# Altium integrated library WD Memory FIFO Register.IntLib: 4 symbols
Pins are listed as number, name and electrical type; pins without a type are passive.

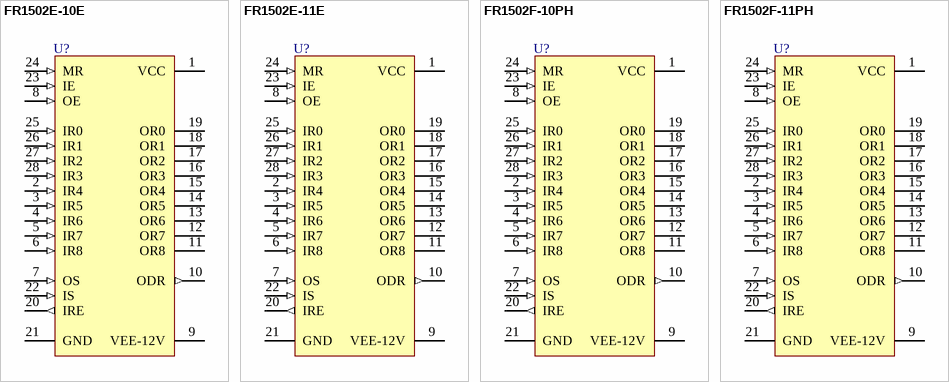
[diagram p0: symbols FR1502E-10E to FR1502F-11PH]

## FR1502E-10E
designator U?
First In/First Out Buffer Register; PackageDocument: 1984; Published: 8-Jun-2000; LatestRevisionDate: 4-Mar-2005; LatestRevisionNote: Stylized 3D Model Added.; DatasheetDocument: 1984; PackageReference: E28; Publisher: Altium Limited; ComponentLink1Description: Manufacturer Link; ComponentLink1URL: http://www.wdc.com/
footprint E28 (DIP; 28 Leads; Row Spacing 15.24 mm; Pitch 2.54 mm)
3D model E28 (DIP; 28 Leads; Row Spacing 15.24 mm; Pitch 2.54 mm)
pins: 1 VCC (power), 2 IR4 (in), 3 IR5 (in), 4 IR6 (in), 5 IR7 (in), 6 IR8 (in), 7 OS (in), 8 OE (in), 9 VEE-12V (power), 10 ODR (out), 11 OR8 (hiz), 12 OR7 (hiz), 13 OR6 (hiz), 14 OR5 (hiz), 15 OR4 (hiz), 16 OR3 (hiz), 17 OR2 (hiz), 18 OR1 (hiz), 19 OR0 (hiz), 20 IRE (out), 21 GND (power), 22 IS (in), 23 IE (in), 24 MR (in), 25 IR0 (in), 26 IR1 (in), 27 IR2 (in), 28 IR3 (in)

## FR1502E-11E
designator U?
First In/First Out Buffer Register; PackageDocument: 1984; Published: 8-Jun-2000; LatestRevisionDate: 4-Mar-2005; LatestRevisionNote: Stylized 3D Model Added.; DatasheetDocument: 1984; PackageReference: E28; Publisher: Altium Limited; ComponentLink1Description: Manufacturer Link; ComponentLink1URL: http://www.wdc.com/
footprint E28 (DIP; 28 Leads; Row Spacing 15.24 mm; Pitch 2.54 mm)
3D model E28 (DIP; 28 Leads; Row Spacing 15.24 mm; Pitch 2.54 mm)
pins: 1 VCC (power), 2 IR4 (in), 3 IR5 (in), 4 IR6 (in), 5 IR7 (in), 6 IR8 (in), 7 OS (in), 8 OE (in), 9 VEE-12V (power), 10 ODR (out), 11 OR8 (hiz), 12 OR7 (hiz), 13 OR6 (hiz), 14 OR5 (hiz), 15 OR4 (hiz), 16 OR3 (hiz), 17 OR2 (hiz), 18 OR1 (hiz), 19 OR0 (hiz), 20 IRE (out), 21 GND (power), 22 IS (in), 23 IE (in), 24 MR (in), 25 IR0 (in), 26 IR1 (in), 27 IR2 (in), 28 IR3 (in)

## FR1502F-10PH
designator U?
First In/First Out Buffer Register; PackageDocument: 1984; Published: 8-Jun-2000; LatestRevisionDate: 4-Mar-2005; LatestRevisionNote: Stylized 3D Model Added.; DatasheetDocument: 1984; PackageReference: PH28; Publisher: Altium Limited; ComponentLink1Description: Manufacturer Link; ComponentLink1URL: http://www.wdc.com/
footprint PH28 (DIP; 28 Leads; Row Spacing 15.24 mm; Pitch 2.54 mm)
3D model PH28 (DIP; 28 Leads; Row Spacing 15.24 mm; Pitch 2.54 mm)
pins: 1 VCC (power), 2 IR4 (in), 3 IR5 (in), 4 IR6 (in), 5 IR7 (in), 6 IR8 (in), 7 OS (in), 8 OE (in), 9 VEE-12V (power), 10 ODR (out), 11 OR8 (hiz), 12 OR7 (hiz), 13 OR6 (hiz), 14 OR5 (hiz), 15 OR4 (hiz), 16 OR3 (hiz), 17 OR2 (hiz), 18 OR1 (hiz), 19 OR0 (hiz), 20 IRE (out), 21 GND (power), 22 IS (in), 23 IE (in), 24 MR (in), 25 IR0 (in), 26 IR1 (in), 27 IR2 (in), 28 IR3 (in)

## FR1502F-11PH
designator U?
First In/First Out Buffer Register; PackageDocument: 1984; Published: 8-Jun-2000; LatestRevisionDate: 4-Mar-2005; LatestRevisionNote: Stylized 3D Model Added.; DatasheetDocument: 1984; PackageReference: PH28; Publisher: Altium Limited; ComponentLink1Description: Manufacturer Link; ComponentLink1URL: http://www.wdc.com/
footprint PH28 (DIP; 28 Leads; Row Spacing 15.24 mm; Pitch 2.54 mm)
3D model PH28 (DIP; 28 Leads; Row Spacing 15.24 mm; Pitch 2.54 mm)
pins: 1 VCC (power), 2 IR4 (in), 3 IR5 (in), 4 IR6 (in), 5 IR7 (in), 6 IR8 (in), 7 OS (in), 8 OE (in), 9 VEE-12V (power), 10 ODR (out), 11 OR8 (hiz), 12 OR7 (hiz), 13 OR6 (hiz), 14 OR5 (hiz), 15 OR4 (hiz), 16 OR3 (hiz), 17 OR2 (hiz), 18 OR1 (hiz), 19 OR0 (hiz), 20 IRE (out), 21 GND (power), 22 IS (in), 23 IE (in), 24 MR (in), 25 IR0 (in), 26 IR1 (in), 27 IR2 (in), 28 IR3 (in)